# EAGLE library part OP07 (library IC)
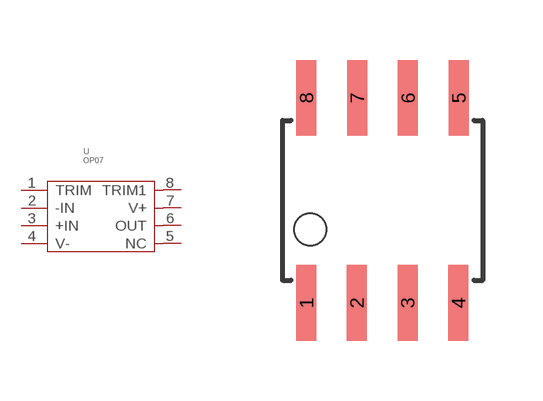
[diagram p157: symbol with the pads of SOIC8; footprint SOIC8]

Designator prefix U

## OP07-SOIC8  [SOIC8]
1  TRIM
2  -IN  in
3  +IN  in
4  V-  sup
5  NC  nc
6  OUT  out
7  V+  sup
8  TRIM1

## Footprint SOIC8 (pad centres in mm)
Wide Plastic Gull Wing Small Outline Package
smd 0.5 x 1.9: 1 -1.905,-2.565; 2 -0.645,-2.565; 3 0.625,-2.565; 4 1.895,-2.565; 5 1.905,2.565; 6 0.635,2.565; 7 -0.635,2.565; 8 -1.905,2.565